# Altium schematic symbol library Driver.SchLib: 21 symbols
Pins are listed as number, name and electrical type; pins without a type are passive.

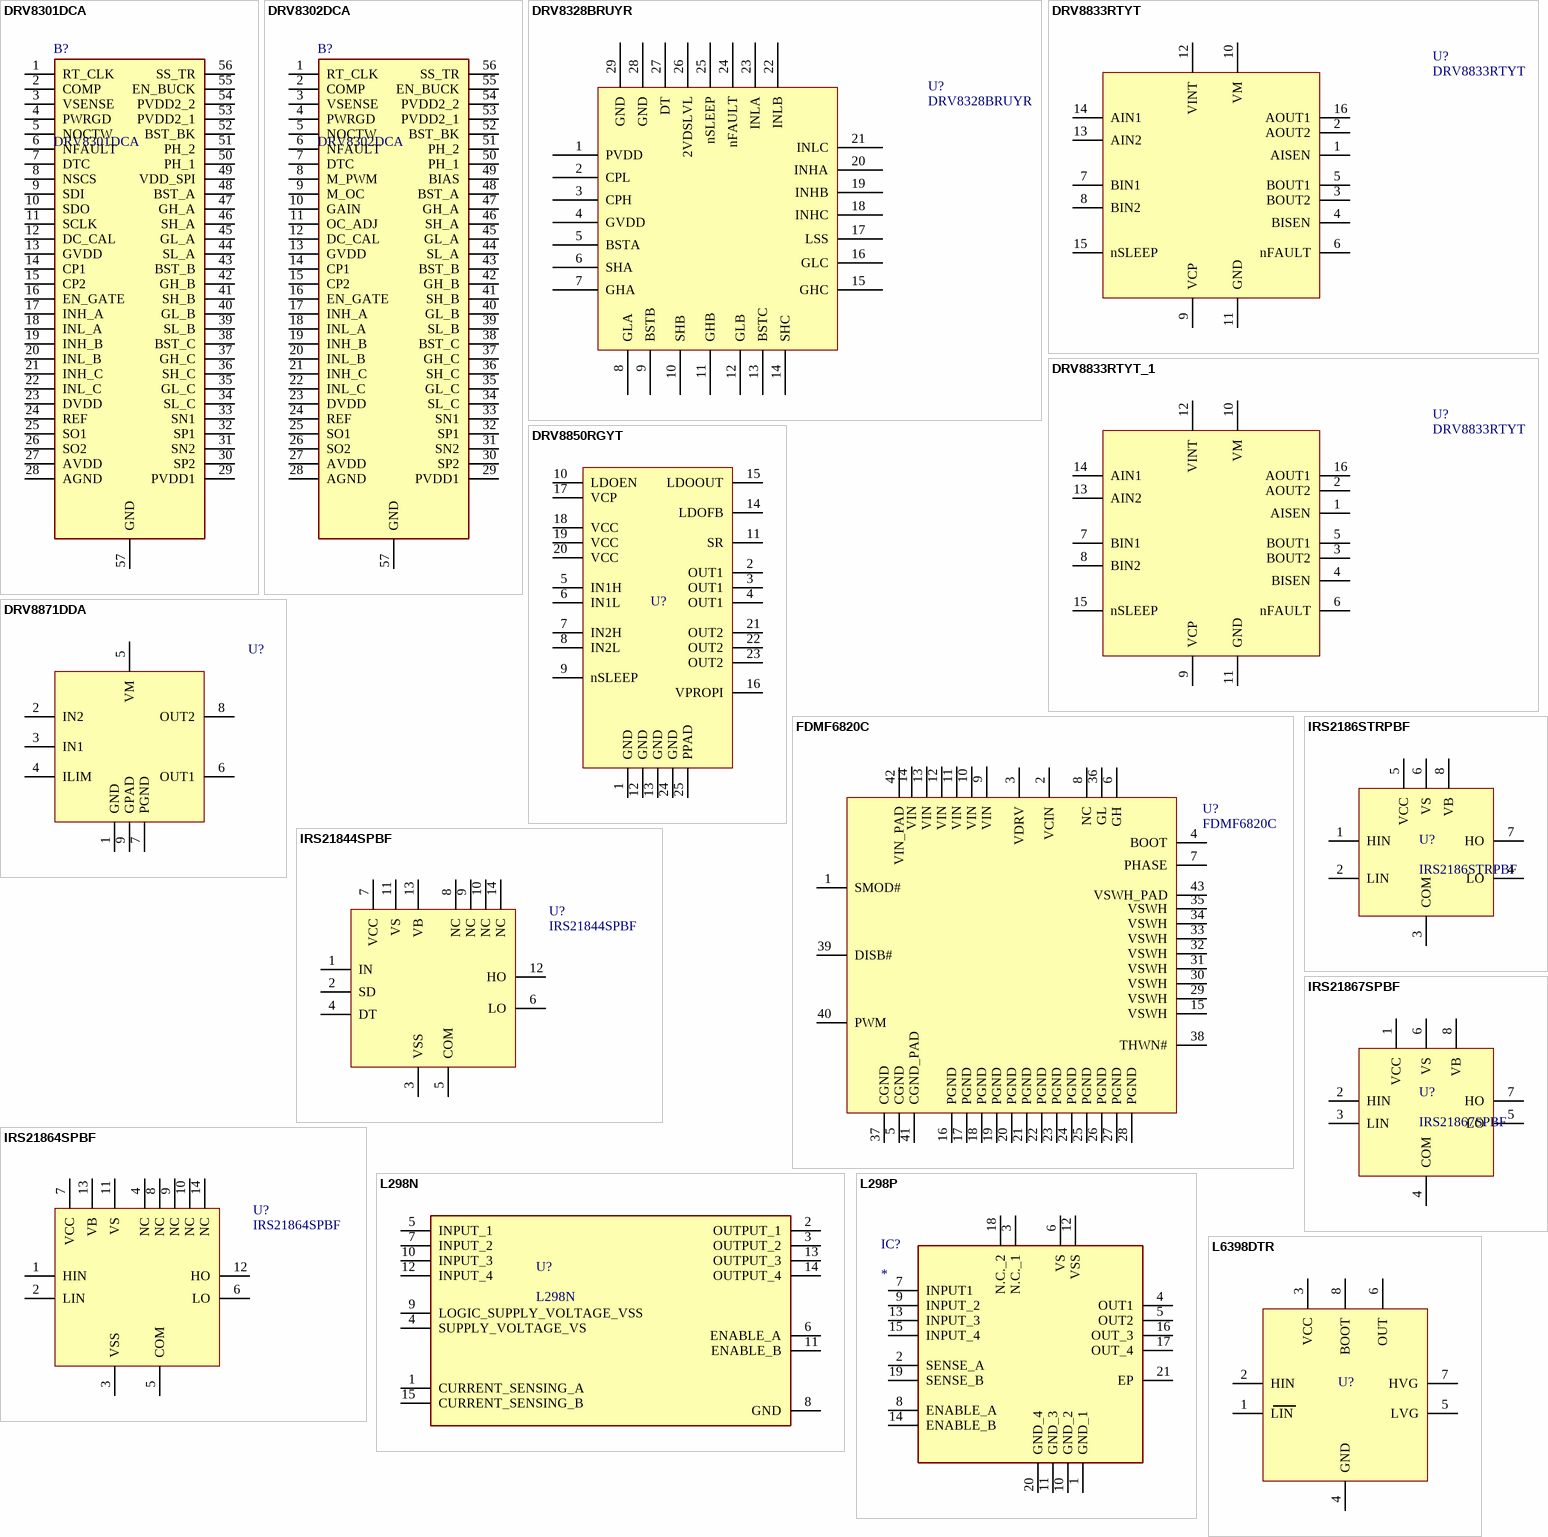
[diagram p0: symbols DRV8301DCA to L6398DTR]

## DRV8301DCA
designator B?
3-Phase Brushless Motor Pre-Driver with Dual Current Sense Amps and Buck Converter (PWM Ctrl w/ SPI); Manufacturer_Name: Texas Instruments; Geometry.Height: 1.2mm; Mouser Part Number: 595-DRV8301DCA; Mouser Price/Stock: https://www.mouser.co.uk/ProductDetail/Texas-Instruments/DRV8301DCA?qs=SMj%252Bbyv09TxbNFelDWMY6Q%3D%3D; Manufacturer_Part_Number: DRV8301DCA; Datasheet Link: http://www.ti.com/lit/ds/symlink/drv8301.pdf
footprint SOP50P810X120-57N
pins: 1 RT_CLK, 2 COMP, 3 VSENSE, 4 PWRGD, 5 NOCTW, 6 NFAULT, 7 DTC, 8 NSCS, 9 SDI, 10 SDO, 11 SCLK, 12 DC_CAL, 13 GVDD, 14 CP1, 15 CP2, 16 EN_GATE, 17 INH_A, 18 INL_A, 19 INH_B, 20 INL_B, 21 INH_C, 22 INL_C, 23 DVDD, 24 REF, 25 SO1, 26 SO2, 27 AVDD, 28 AGND, 29 PVDD1, 30 SP2, 31 SN2, 32 SP1, 33 SN1, 34 SL_C, 35 GL_C, 36 SH_C, 37 GH_C, 38 BST_C, 39 SL_B, 40 GL_B, 41 SH_B, 42 GH_B, 43 BST_B, 44 SL_A, 45 GL_A, 46 SH_A, 47 GH_A, 48 BST_A, 49 VDD_SPI, 50 PH_1, 51 PH_2, 52 BST_BK, 53 PVDD2_1, 54 PVDD2_2, 55 EN_BUCK, 56 SS_TR, 57 GND

## DRV8302DCA
designator B?
3-Phase Brushless Motor Pre-Driver DRV8302DCA, Motor Driver, 3-Phase Motor Driver, 200kHz 8 ??? 60 V, 56-Pin HTSSOP; Manufacturer_Name: Texas Instruments; Geometry.Height: 1.2mm; Mouser Part Number: 595-DRV8302DCA; Mouser Price/Stock: https://www.mouser.co.uk/ProductDetail/Texas-Instruments/DRV8302DCA?qs=UMk2QrKu%2FwwgoG3aN39ZGg%3D%3D; Manufacturer_Part_Number: DRV8302DCA; Datasheet Link: http://www.ti.com/lit/ds/symlink/drv8302.pdf
footprint SOP50P810X120-57N
pins: 1 RT_CLK, 2 COMP, 3 VSENSE, 4 PWRGD, 5 NOCTW, 6 NFAULT, 7 DTC, 8 M_PWM, 9 M_OC, 10 GAIN, 11 OC_ADJ, 12 DC_CAL, 13 GVDD, 14 CP1, 15 CP2, 16 EN_GATE, 17 INH_A, 18 INL_A, 19 INH_B, 20 INL_B, 21 INH_C, 22 INL_C, 23 DVDD, 24 REF, 25 SO1, 26 SO2, 27 AVDD, 28 AGND, 29 PVDD1, 30 SP2, 31 SN2, 32 SP1, 33 SN1, 34 SL_C, 35 GL_C, 36 SH_C, 37 GH_C, 38 BST_C, 39 SL_B, 40 GL_B, 41 SH_B, 42 GH_B, 43 BST_B, 44 SL_A, 45 GL_A, 46 SH_A, 47 GH_A, 48 BST_A, 49 BIAS, 50 PH_1, 51 PH_2, 52 BST_BK, 53 PVDD2_1, 54 PVDD2_2, 55 EN_BUCK, 56 SS_TR, 57 GND

## DRV8328BRUYR
designator U?
IC MTR DRV (4,5V ~ 60V) 1 - 2 A WQFN-28; Manufacturer: Texas Instruments; Operating Supply Current: 7uA ~ 35uA; Current - Peak Output (Source/Sink): 2 A; Current - Output: 1.5 A; Rise / Fall Time (Typ): 100ns / 100ns; Output Configuration: 3 Half Bridge (6); Logic Voltage - VIL, VIH: VIL =  0,8V / VIH =  2,2 V; Library Control - Person that did the Last Update Footprint: Firme; Logic (IN-SD/High Low): IN-SD; Rds On - Drain-Source Resistance: 4,5 Ohms; Category: Driver; Part Number: DRV8328BRUYR; Price: 1=2,7000, 10=2,44000, 100=1,9600 (USD); Technology: Power MOSFET; Package / Case: WQFN-28; Voltage - Load: -; Voltage - Supply: 4,5 V ~ 60 V; Operating Temperature: -40C ~ 150C; Library Ref: Driver; Library Control - Last Project that Used: -; Library Control - Last Update: 29/09/22; ComponentLink1Description: Mouser Link / ST Link; ComponentLink1URL: https://br.mouser.com/ProductDetail/Texas-Instruments/DRV8328BRUYR?qs=MyNHzdoqoQJCZ2BkmeuPjw%3D%3D; ComponentLink2Description: Datasheet; ComponentLink2URL: https://www.ti.com/lit/ds/symlink/drv8328.pdf?HQS=dis-mous-null-mousermode-dsf-pf-null-wwe&ts=1664488179988&ref_url=https%253A%252F%252Fbr.mouser.com%252F; Supplier 1: Mouser; Supplier Part Number 1: 595-DRV8328BRUYR
footprint WQFN-28 (PQFN, 28-Leads, Body 4,00x4,00mm, Pitch 0,40mm, Thermal Pad 2,60x2,60mm, IPC Medium Density)
pins: 1 PVDD, 2 CPL, 3 CPH, 4 GVDD, 5 BSTA, 6 SHA, 7 GHA, 8 GLA, 9 BSTB, 10 SHB, 11 GHB, 12 GLB, 13 BSTC, 14 SHC, 15 GHC, 16 GLC, 17 LSS, 18 INHC, 19 INHB, 20 INHA, 21 INLC, 22 INLB, 23 INLA, 24 nFAULT, 25 nSLEEP, 26 2VDSLVL, 27 DT, 28 GND, 29 GND

## DRV8833RTYT
designator U?
IC MTR DRV (2.7V ~ 10.8V) 1.5 A WQFN-16; Manufacturer: Texas Instruments; Operating Supply Current: 1.7 mA ~ 3 mA; Current - Peak Output (Source/Sink): 2 A; Current - Output: 1.5 A; Power Dissipation: 1.5W; Rise / Fall Time (Typ): 180 ns / 160 ns; Output Configuration: Half Bridge (4); Logic Voltage - VIL, VIH: VIL = 0.7 V (nSleep = 0.5 V) / VIH = 2 V (nSleep = 2.5V); Library Control - Checked Schematic: Yes; Library Control - Person that Checked Schematic: Raquel; Library Control - Person that did the Last Update Schematic: Stéfany(Ster); Logic (IN-SD/High Low): IN-SD; Rds On - Drain-Source Resistance: 360 mOhms; Category: Driver; Part Number: DRV8833RTYT; Price: 1=2,49000, 10=2,24000, 100=1,80000 (USD); Technology: Power MOSFET; Package / Case: WQFN-16; Voltage - Load: -; Voltage - Supply: 2.7 V ~ 10.8 V; Operating Temperature: -40C ~ 85C; Library Ref: Driver; Library Control - Checked Footprint: Yes; Library Control - Last Project that Used: -; Library Control - Last Update: 16/06/21; Library Control - Person that Checked Footprint: Raquel; Library Control - Person that did the Last Update Footprint: Stéfany(Ster); ComponentLink1Description: Mouser Link / ST Link; ComponentLink1URL: https://br.mouser.com/ProductDetail/Texas-Instruments/DRV8833RTYT?qs=%2Fha2pyFaduilsGqYdRS7ecvCbHxoHvHSD%2F%252BxLFdOXmyf0UBy6q3Jxg%3D%3D; ComponentLink2Description: Datasheet; ComponentLink2URL: https://www.ti.com/lit/ds/symlink/drv8833.pdf?HQS=dis-mous-null-mousermode-dsf-pf-null-wwe&ts=1622944200593&ref_url=https%253A%252F%252Fbr.mouser.com%252F; Supplier 1: Mouser; Supplier Part Number 1: 595-DRV8833RTYT
footprint WQFN-16 (16_Pins)
pins: 1 AISEN, 2 AOUT2, 3 BOUT2, 4 BISEN, 5 BOUT1, 6 nFAULT, 7 BIN1, 8 BIN2, 9 VCP, 10 VM, 11 GND, 12 VINT, 13 AIN2, 14 AIN1, 15 nSLEEP, 16 AOUT1

## DRV8833RTYT_1
designator U?, comment DRV8833RTYT
IC MTR DRV (2.7V ~ 10.8V) 1.5 A WQFN-16; Manufacturer: Texas Instruments; Operating Supply Current: 1.7 mA ~ 3 mA; Current - Peak Output (Source/Sink): 2 A; Current - Output: 1.5 A; Power Dissipation: 1.5W; Rise / Fall Time (Typ): 180 ns / 160 ns; Output Configuration: Half Bridge (4); Logic Voltage - VIL, VIH: VIL = 0.7 V (nSleep = 0.5 V) / VIH = 2 V (nSleep = 2.5V); Library Control - Checked Schematic: Yes; Library Control - Person that Checked Schematic: Raquel; Library Control - Person that did the Last Update Schematic: Stéfany(Ster); Logic (IN-SD/High Low): IN-SD; Rds On - Drain-Source Resistance: 360 mOhms; Category: Driver; Part Number: DRV8833RTYT; Price: 1=2,49000, 10=2,24000, 100=1,80000 (USD); Technology: Power MOSFET; Package / Case: WQFN-16; Voltage - Load: -; Voltage - Supply: 2.7 V ~ 10.8 V; Operating Temperature: -40C ~ 85C; Library Ref: Driver; Library Control - Checked Footprint: Yes; Library Control - Last Project that Used: -; Library Control - Last Update: 16/06/21; Library Control - Person that Checked Footprint: Raquel; Library Control - Person that did the Last Update Footprint: Stéfany(Ster); ComponentLink1Description: Mouser Link / ST Link; ComponentLink1URL: https://br.mouser.com/ProductDetail/Texas-Instruments/DRV8833RTYT?qs=%2Fha2pyFaduilsGqYdRS7ecvCbHxoHvHSD%2F%252BxLFdOXmyf0UBy6q3Jxg%3D%3D; ComponentLink2Description: Datasheet; ComponentLink2URL: https://www.ti.com/lit/ds/symlink/drv8833.pdf?HQS=dis-mous-null-mousermode-dsf-pf-null-wwe&ts=1622944200593&ref_url=https%253A%252F%252Fbr.mouser.com%252F; Supplier 1: Mouser; Supplier Part Number 1: 595-DRV8833RTYT
footprint WQFN-16 SEM PAD (WQFN-16 (16_Pins))
pins: 1 AISEN, 2 AOUT2, 3 BOUT2, 4 BISEN, 5 BOUT1, 6 nFAULT, 7 BIN1, 8 BIN2, 9 VCP, 10 VM, 11 GND, 12 VINT, 13 AIN2, 14 AIN1, 15 nSLEEP, 16 AOUT1

## DRV8850RGYT
designator U?  (value not drawn)
IC MTR DRV (2.5V - 13.5V) 1A VQFN-24; Manufacturer: Texas Instruments; Suplier Part Number 1: 595-DRV8850RGYT; Operating Supply Current: 1.2A; Current - Peak Output (Source, Sink): 3.2A / 3.2A; Voltage - Load: 2.5V ~ 13.5V; Voltage - Supply: 2.7V ~ 5.5V; Power Dissipation: 1.36W; Rise / Fall Time (Typ): 24ns / 41ns; Output Configuration: Half Bridge (4); Logic Voltage - VIL, VIH: VIL = (-0.2 V ~ VCCx0.3 V) / VIH = (VCCx0.7 V ~ VCC+0.2 V); Library Control - Checked Schematic: Yes; Library Control - Person that Checked Schematic: Stéfany (Ster); Logic (IN-SD/High Low): IN-SD; Category: Driver; Supplier 1: Mouser; Part Number: DRV8850RGYT; Price: 1=1,82, 10=1,64, 100=1,32 (USD); Package / Case: VQFN-24; Current - Output: 1A; Operating Temperature: -20°C ~ 85°C; Library Ref: Driver; Library Control - Checked Footprint: Yes; Library Control - Last Update: 12/06/2021 13:08; Library Control - Person that Checked Footprint: Stéfany (Ster); Library Control - Person that did the Last Update Schematic: Stéfany (Ster); Library Control - Person that did the Last Update Footprint: Stéfany (Ster); ComponentLink1Description: Mouser Link / ST Link; ComponentLink1URL: https://br.mouser.com/ProductDetail/Texas-Instruments/DRV8850RGYT?qs=wrT8kFYR778SGlQqu%252B55aw%3D%3D; ComponentLink2Description: Datasheet; ComponentLink2URL: https://www.ti.com/lit/ds/symlink/drv8850.pdf?HQS=dis-mous-null-mousermode-dsf-pf-null-wwe&ts=1629150528255&ref_url=https%253A%252F%252Fwww.mouser.com%252F
footprint QFN50P550X350X100-25N
pins: 1 GND, 2 OUT1, 3 OUT1, 4 OUT1, 5 IN1H, 6 IN1L, 7 IN2H, 8 IN2L, 9 nSLEEP, 10 LDOEN, 11 SR, 12 GND, 13 GND, 14 LDOFB, 15 LDOOUT, 16 VPROPI, 17 VCP, 18 VCC, 19 VCC, 20 VCC, 21 OUT2, 22 OUT2, 23 OUT2, 24 GND, 25 PPAD

## DRV8871DDA
designator U?  (value not drawn)
IC MTR DRV (6.5V ~ 45V) (3.5 A) SO-PowerPad-8; Manufacturer: Texas Instruments; Suplier Part Number 1: 595-DRV8871DDA; Operating Supply Current: 3mA; Current - Peak Output (Source, Sink): 3.6A / 3.6A; Current - Output: 3.5A; Power Dissipation: Irms^2 (HighSide Rds(On) + LowSide Rds(On)); Output Configuration: Half Bridge (2); Logic Voltage - VIL, VIH: VIL=0.5V / VIH=1.5V; Library Control - Checked Schematic: Yes; Library Control - Person that Checked Schematic: Stéfany (Ster); Library Control - Person that did the Last Update Footprint: Maria Laura; Logic (IN-SD/High Low): IN-SD; Rds On - Drain-Source Resistance: 565m ohm; Category: Driver; Supplier 1: Mouser; Part Number: DRV8871DDA; Price: 1=3,15000, 10=2,84000, 100=2,31000 (USD); Technology: Power MOSFET; Package / Case: SO-PowerPad-8; Voltage - Load: (6.5V ~ 45V); Voltage - Supply: (6.5V ~ 45V); Operating Temperature: -40°C ~ 125°C; Library Ref: Driver; Library Control - Checked Footprint: Yes; Library Control - Last Update: 12/06/2021 17:04; Library Control - Person that Checked Footprint: Stéfany (Ster); Library Control - Person that did the Last Update Schematic: Stéfany (Ster); ComponentLink1Description: Mouser Link / ST Link; ComponentLink1URL: https://br.mouser.com/ProductDetail/Texas-Instruments/DRV8871DDA?qs=Fobv33ltQGiluwfB07aSBw%3D%3D; ComponentLink2Description: Datasheet; ComponentLink2URL: https://www.ti.com/lit/ds/symlink/drv8871.pdf?HQS=dis-mous-null-mousermode-dsf-pf-null-wwe&ts=1623013148488&ref_url=https%253A%252F%252Fwww.google.com%252F
footprint SO-PowerPad-8(8_pins)
pins: 1 GND, 2 IN2, 3 IN1, 4 ILIM, 5 VM, 6 OUT1, 7 PGND, 8 OUT2, 9 GPAD

## FDMF6820C
designator U?
IC MTR DRV (4.5V ~ 5.5V) (50 A) PQFN-40; Manufacturer: ON Semiconductor / Fairchild; Operating Supply Current: 2 mA; Current - Peak Output (Source/Sink): 100 mA / 100 mA; Current - Output: 50 A; Power Dissipation: 45 kW; Rise / Fall Time (Typ) - Low Side: 20 ns / 10 ns; Output Configuration: Half Bridge (1); Logic Voltage - VIL, VIH: VIL = (0.62 V ~ 1.13 V) / VIH = (1.88 V ~ 2.61 V); Library Control - Checked Schematic: Yes; Library Control - Person that Checked Schematic: Raquel; Library Control - Person that did the Last Update Schematic: Stéfany(Ster); Logic (IN-SD/High Low): IN-SD; Rds On - Drain-Source Resistance: 30 Ohms; Rise / Fall Time (Typ) - High Side: 10ns / 10ns; Category: Driver; Part Number: FDMF6820C; Price: 1=3,79000, 10=3,41000, 100=2,80000 (USD); Technology: Power MOSFET; Package / Case: PQFN-40; Voltage - Load: -; Voltage - Supply: 4.5 V ~ 5.5 V; Operating Temperature: -40C ~ 125C; Library Ref: Driver; Library Control - Checked Footprint: Yes; Library Control - Last Project that Used: -; Library Control - Last Update: 16/06/21; Library Control - Person that Checked Footprint: Raquel; Library Control - Person that did the Last Update Footprint: Stéfany(Ster); Supplier 1: Mouser; Supplier Part Number 1: 512-FDMF6820C; ComponentLink1Description: Datasheet; ComponentLink1URL: https://br.mouser.com/datasheet/2/308/1/FDMF6820C_D-2312390.pdf; ComponentLink2Description: Mouser Link / ST Link; ComponentLink2URL: https://br.mouser.com/ProductDetail/ON-Semiconductor-Fairchild/FDMF6820C?qs=%2Fha2pyFaduiLXjLQHsgiuz3AQ4J8ZHdB9d7dgKmM5NL471Hl18UY6A%3D%3D
footprint PQFN-40 (40_PINS)
pins: 1 SMOD#, 2 VCIN, 3 VDRV, 4 BOOT, 5 CGND, 6 GH, 7 PHASE, 8 NC, 9 VIN, 10 VIN, 11 VIN, 12 VIN, 13 VIN, 14 VIN, 15 VSWH, 16 PGND, 17 PGND, 18 PGND, 19 PGND, 20 PGND, 21 PGND, 22 PGND, 23 PGND, 24 PGND, 25 PGND, 26 PGND, 27 PGND, 28 PGND, 29 VSWH, 30 VSWH, 31 VSWH, 32 VSWH, 33 VSWH, 34 VSWH, 35 VSWH, 36 GL, 37 CGND, 38 THWN#, 39 DISB#, 40 PWM, 41 CGND_PAD, 42 VIN_PAD, 43 VSWH_PAD

## IRS2186STRPBF
designator U?
IC MTR DRV (10V ~ 20V) (4 A) SOIC-8; Manufacturer: Infineon / IR; Suplier Part Number 1: 942-IRS2186STRPBF; Operating Supply Current: 240 uA; Current - Peak Output (Source/Sink): 4 A / 14A; Current - Output: 4 A; Power Dissipation: 625 mW; Rise / Fall Time (Typ): 38 ns / 30 ns; Output Configuration: Half Bridge (2); Logic Voltage - VIL, VIH: VIL = 0.8 V / VIH = 2.5 V; Library Control - Checked Schematic: Yes; Library Control - Person that Checked Schematic: Maria Laura; Library Control - Person that Checked Footprint: Stéfany(Ster); Logic (IN-SD/High Low): High Low; Category: Driver; Supplier 1: Mouser; Part Number: IRS2186STRPBF; Price: 1=1,73000, 10=1,56000, 100=1,25000 (USD); Technology: Power MOSFET; Package / Case: SOIC-8; Voltage - Supply: 10 V ~ 20 V; Operating Temperature: -40°C ~ 125°C; Library Ref: Driver; Library Control - Checked Footprint: Yes; Library Control - Last Update: 07/06/2021 10:38; Library Control - Person that did the Last Update Schematic: Stéfany(Ster); Library Control - Person that did the Last Update Footprint: Stéfany(Ster); ComponentLink1Description: Mouser Link / ST Link; ComponentLink1URL: https://br.mouser.com/ProductDetail/Infineon-IR/IRS2186STRPBF?qs=%2Fha2pyFadujIBJtUbZ4qF7ZE%252BC5tV5%2FfXdFcEsTpyD8obho2oT0lXQ%3D%3D; ComponentLink2Description: Datasheet; ComponentLink2URL: https://br.mouser.com/datasheet/2/196/Infineon_IRS2186_DataSheet_v01_00_EN-1228528.pdf
footprint SOIC-8 (8_PINS)
pins: 1 HIN, 2 LIN, 3 COM, 4 LO, 5 VCC, 6 VS, 7 HO, 8 VB

## IRS21844SPBF
designator U?
IC MTR DRV (10V ~ 20V) (1.9 A) 14-Lead SOIC; Manufacturer: Infineon / IR; Operating Supply Current: 1.6 mA; Current - Peak Output (Source/Sink): 1.4 A / 1.8A; Current - Output: 1.9 A; Power Dissipation: 1.0W; Rise / Fall Time (Typ): 60 ns / 35 ns; Output Configuration: Half Bridge (1); Logic Voltage - VIL, VIH: VSS-0.3 V ~ VCC+0.3 V; Library Control - Checked Schematic: Yes; Library Control - Person that Checked Schematic: Maria Laura; Library Control - Person that Checked Footprint: Stéfany(Ster); Logic (IN-SD/High Low): IN-SD; Category: Driver; Part Number: IRS21844SPBF; Price: 1=2,79000, 10=2,52000, 100=2,03000 (USD); Technology: Power MOSFET; Package / Case: 14-Lead SOIC; Voltage - Supply: 10 V ~ 20 V; Operating Temperature: -40°C ~ 125°C; Library Ref: Driver; Library Control - Checked Footprint: Yes; Library Control - Last Update: 07/06/2021 10:36; Library Control - Person that did the Last Update Schematic: Stéfany(Ster); Library Control - Person that did the Last Update Footprint: Stéfany(Ster); ComponentLink1Description: Mouser Link / ST Link; ComponentLink1URL: https://br.mouser.com/ProductDetail/Infineon-IR/IRS21844SPBF?qs=%2Fha2pyFadujIBJtUbZ4qF3K9G4G5Zppmeq9icBjBSImGlNW5TMXvuw%3D%3D; ComponentLink2Description: Datasheet; ComponentLink2URL: https://br.mouser.com/datasheet/2/196/Infineon_IRS2184_DataSheet_v01_00_EN-1732975.pdf; Supplier 1: Mouser; Supplier Part Number 1: 942-IRS21844SPBF
footprint SOIC-14 (14_Pins) (14-Lead SOIC (14_Pins))
pins: 1 IN, 2 SD, 3 VSS, 4 DT, 5 COM, 6 LO, 7 VCC, 8 NC, 9 NC, 10 NC, 11 VS, 12 HO, 13 VB, 14 NC

## IRS21864SPBF
designator U?
IC MTR DRV (10V ~ 20V) (4 A) SOIC-14; Manufacturer: Infineon / IR; Suplier Part Number 1: 942-IRS21864SPBF; Operating Supply Current: 240 uA; Current - Peak Output (Source/Sink): 4 A / 4 A; Current - Output: 4 A; Power Dissipation: 1.0W; Rise / Fall Time (Typ): 22 ns / 18 ns; Output Configuration: Half Bridge (2); Logic Voltage - VIL, VIH: VIL = 0.8 V / VIH = 2.5 V; Library Control - Checked Schematic: Yes; Library Control - Person that Checked Schematic: Raquel; Library Control - Person that did the Last Update Schematic: Stéfany(Ster); Logic (IN-SD/High Low): High Low; Category: Driver; Part Number: IRS21864SPBF; Price: 1=3,25000, 10=1,93000, 100=2,35000 (USD); Technology: Power MOSFET; Package / Case: SOIC-14; Voltage - Load: -; Voltage - Supply: 10 V ~ 20 V; Operating Temperature: -40C ~ 125C; Library Ref: Driver; Library Control - Checked Footprint: Yes; Library Control - Last Project that Used: -; Library Control - Last Update: 16/06/21; Library Control - Person that Checked Footprint: Raquel; Library Control - Person that did the Last Update Footprint: Stéfany(Ster); Rds On - Drain-Source Resistance: -; ComponentLink1Description: Mouser Link / ST Link; ComponentLink1URL: https://br.mouser.com/ProductDetail/Infineon-IR/IRS21864SPbF?qs=ellYJlE8XiEJoyjC5pBtuw%3D%3D; ComponentLink2Description: Datasheet; ComponentLink2URL: https://br.mouser.com/datasheet/2/196/Infineon_IRS2186_DataSheet_v01_00_EN-1228528.pdf; Supplier 1: Mouser; Supplier Part Number 1: 942-IRS21864STRPBF
footprint SOIC-14 (14_Pins) (14-Lead SOIC (14_Pins))
pins: 1 HIN, 2 LIN, 3 VSS, 4 NC, 5 COM, 6 LO, 7 VCC, 8 NC, 9 NC, 10 NC, 11 VS, 12 HO, 13 VB, 14 NC

## IRS21867SPBF
designator U?
IC MTR DRV (10V ~ 20V) (4A) SOIC-8; Manufacturer: Infineon / IR; Suplier Part Number 1: 942-IRS21867SPBF; Operating Supply Current: 240 uA; Current - Peak Output (Source, Sink): 4A / 4A; Voltage - Supply: 6.8V ~ 20V; Power Dissipation: 0.625 W; Rise / Fall Time (Typ): 38ns / 30ns; Output Configuration: Half-Bridge(2); Logic Voltage - VIL, VIH: VIL=0,8V / VIH=2.5V; Library Control - Checked Schematic: Yes; Library Control - Person that Checked Schematic: Stéfany (Ster); Library Control - Person that did the Last Update Footprint: Maria Laura; Logic (IN-SD/High Low): High Low; Category: Driver; Supplier 1: Mouser; Part Number: IRS21867SPBF; Price: 1=2,16000, 10=1,94000, 100=1,56000 (USD); Technology: Power MOSFET; Package / Case: SOIC-8; Current - Output: 4A; Voltage - Load: 10V ~ 20V; Operating Temperature: -40°C ~ 125°C; Library Ref: Driver; Library Control - Checked Footprint: Yes; Library Control - Last Update: 08/06/2021 11:03; Library Control - Person that Checked Footprint: Stéfany (Ster); Library Control - Person that did the Last Update Schematic: Stéfany (Ster); ComponentLink1Description: Mouser / ST Link; ComponentLink1URL: https://br.mouser.com/ProductDetail/Infineon-IR/IRS21867SPBF?qs=%2Fha2pyFadujIBJtUbZ4qF7hYp%252BwgQT8WJD5opknARleMmpA1%2F%252BdWbA%3D%3D; ComponentLink2Description: Datasheet; ComponentLink2URL: https://br.mouser.com/datasheet/2/196/infn_s_a0006155621_1-2271247.pdf
footprint SOIC-8 (8_PINS)
pins: 1 VCC, 2 HIN, 3 LIN, 4 COM, 5 LO, 6 VS, 7 HO, 8 VB

## L298N
designator U?
IC MTR DRV (10V ~ 20V) (4A) SOIC-8; Manufacturer: STMicroelectronics; Suplier Part Number 1: 511-L298; Operating Supply Current: 13 mA; Current - Peak Output (Source, Sink): 3A; Current - Output: 2A; Voltage - Load: 7V ~50V; Voltage - Supply: -0.3V ~7V; Power Dissipation: 25W; Rise / Fall Time (Typ): 0.7us/0.25us; Output Configuration: Half-Bridge(2); Logic Voltage - VIL, VIH: VIL=-0.3V / VIH=2.3V; Library Control - Checked Schematic: no; Library Control - Last Project that Used: Raijin-MK2; Logic (IN-SD/High Low): High Low; Category: Driver; Supplier 1: Mouser; Part Number: L298N; Price: 1=6,42, 10=5,8, 25=5,53 (USD); Technology: Power MOSFET; Package / Case: Tube; Operating Temperature: -25°C ~130°C; Library Ref: Driver; Library Control - Checked Footprint: no; Library Control - Last Update: 01/03/22 14:42; Library Control - Person that Checked Schematic: -; Library Control - Person that Checked Footprint: -; Library Control - Person that did the Last Update Schematic: -; Library Control - Person that did the Last Update Footprint: -; ComponentLink1Description: Mouser / ST Link; ComponentLink1URL: https://br.mouser.com/ProductDetail/STMicroelectronics/L298N?qs=sGAEpiMZZMtqBmg8fZQA6w19%252BjdLw82F; ComponentLink2Description: Datasheet; ComponentLink2URL: https://br.mouser.com/datasheet/2/389/cd00000240-1795236.pdf
footprint L298N
pins: 1 CURRENT_SENSING_A, 2 OUTPUT_1, 3 OUTPUT_2, 4 SUPPLY_VOLTAGE_VS, 5 INPUT_1, 6 ENABLE_A, 7 INPUT_2, 8 GND, 9 LOGIC_SUPPLY_VOLTAGE_VSS, 10 INPUT_3, 11 ENABLE_B, 12 INPUT_4, 13 OUTPUT_3, 14 OUTPUT_4, 15 CURRENT_SENSING_B

## L298P
designator IC?
IC MTR DRV (4.8V ~ 46V) (4A) PowerSO-20; Manufacturer: STMicroelectronics; Part Number: L298P; Suplier Part Number 1: 511-L298P; Suplier 1: Mouser; Operating Supply Current: 4.8 V to 46 V; Current - Peak Output (Source, Sink): 3 A; Power Dissipation: 25 W; Rise / Fall Time (Typ): 0.7 / 0.2 (us); Output Configuration: Dual Full-Bridge; Logic Voltage - VIL, VIH: VIL=-0.3V / VIH=2.3V; Logic (IN-SD/High Low): High Low; Category: Driver; Price: STMicroelectronics; Tecnology: L298P; Package / Case: PowerSO-20; Current - Output: 4 A; Voltage - Supply: 4.8 V ~ 46 V; Operating Temperature: -25 °C ~+130 °C; ComponentLink1Description: Mouser; ComponentLink1URL: https://br.mouser.com/ProductDetail/STMicroelectronics/L298P?qs=lDh9v96ogBZNJERYYNX11w%3D%3D; Library Ref: Driver; Library Control - Checked Schematic: *; Library Control - Checked Footprint: *; Library Control - Last Project that Used: *; Library Control - Last Update: *; Library Control - Person that Checked Schematic: *; Library Control - Person that Checked Footprint: *; Library Control - Person that did the Last Update Schematic: *; Library Control - Person that did the Last Update Footprint: *; ComponentLink2Description: Datasheet; ComponentLink2URL: https://br.mouser.com/datasheet/2/389/l298-1849437.pdf
footprint PowerSO-20
pins: 1 GND_1, 2 SENSE_A, 3 N.C._1, 4 OUT1, 5 OUT2, 6 VS, 7 INPUT1, 8 ENABLE_A, 9 INPUT_2, 10 GND_2, 11 GND_3, 12 VSS, 13 INPUT_3, 14 ENABLE_B, 15 INPUT_4, 16 OUT_3, 17 OUT_4, 18 N.C._2, 19 SENSE_B, 20 GND_4, 21 EP

## L6398DTR
designator U?  (value not drawn)
IC MTR DRV (-11V ~ 580V) (290mA) SO-8; Manufacturer: ST; Operating Supply Current: 90uA; Current - Peak Output (Source, Sink): 290mA / 430mA; Voltage - Supply: 10V ~ 20V; Power Dissipation: 800mW; Rise / Fall Time (Typ): 75ns / 35ns; Output Configuration: Half-Bridge(0); Logic Voltage - VIL, VIH: VIL=(0.8V ~ 1.1V) / VIH=(1.9V ~ 2.25V); Library Control - Checked Schematic: Yes; Library Control - Person that Checked Schematic: Pierre; Library Control - Person that did the Last Update Schematic: Stéfany(Ster); Library Control - Person that did the Last Update Footprint: Maria Laura; Logic (IN-SD/High Low): IN-SD; Rds On - Drain-Source Resistance: 120 ohms; Category: Driver; Supplier 1: ST; Part Number: L6398DTR; Suplier Part Number 1: L6398DTR; Price: 1=1,55000, 10=1,40000, 100=1,13000 (USD); Technology: Power MOSFET; Package / Case: SO-8; Current - Output: 290mA; Voltage - Load: -11V ~ 580V; Operating Temperature: -40°C ~ 125°C; Library Ref: Driver; Library Control - Checked Footprint: Yes; Library Control - Last Update: 21/06/2021 12:30; Library Control - Person that Checked Footprint: Pierre; ComponentLink1Description: Mouser / ST Link; ComponentLink1URL: https://estore.st.com/en/l6398dtr-cpn.html; ComponentLink2Description: Datasheet; ComponentLink2URL: https://www.st.com/resource/en/datasheet/l6398.pdf
footprint SO-8 (8_pins)
pins: 1 LIN, 2 HIN, 3 VCC, 4 GND, 5 LVG, 6 OUT, 7 HVG, 8 BOOT

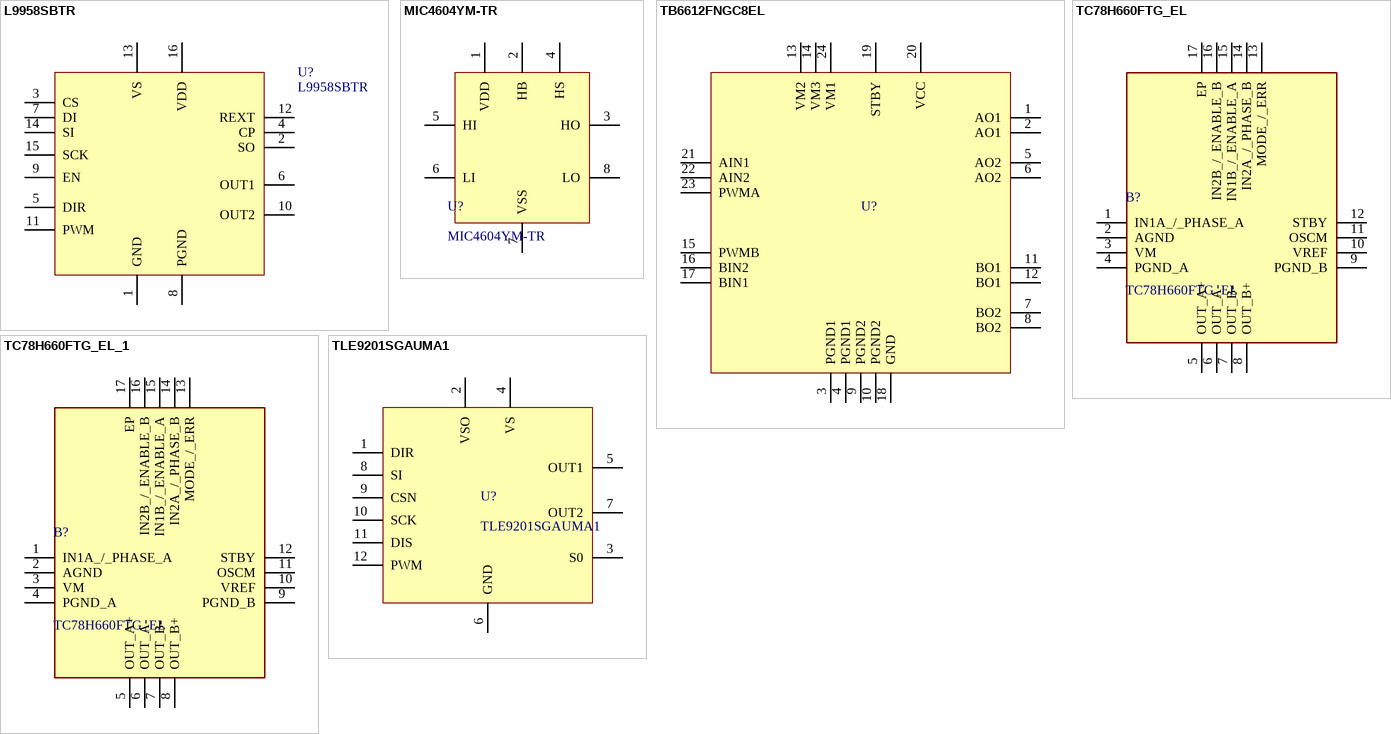
[diagram p1: symbols L9958SBTR to TLE9201SGAUMA1]

## L9958SBTR
designator U?
IC MTR DRV (4V ~ 28V) (100 uA) POWERSO 16; Manufacturer: ST; Operating Supply Current: 20 uA; Current - Peak Output (Source/Sink): 5 uA / 100 uA; Current - Output: 100 uA; Voltage - Load: 4V ~ 28V; Voltage - Supply: 4.5 V ~ 5.5 V; Power Dissipation: 625 mW; Rise / Fall Time (Typ): 0.2 us / 3 us; Output Configuration: Half Bridge (2); Logic Voltage - VIL, VIH: VIL = (-0.3 V ~ 0.8 V) / VIH = (2 V ~ VDD + 0.3 V); Library Control - Checked Schematic: Yes; Library Control - Person that Checked Schematic: Pierre; Library Control - Person that did the Last Update Footprint: Stéfany(Ster); Logic (IN-SD/High Low): IN-SD; Rds On - Drain-Source Resistance: 300 mOhms; Category: Driver; Part Number: L9958SBTR; Suplier Part Number 2: L9958SBTR; Price: 1=5,51000, 10=4,95000, 100=4,06000 (USD); Technology: Power MOSFET; Package / Case: POWERSO 16; Operating Temperature: -40°C ~ 150°C; Library Ref: Driver; Library Control - Checked Footprint: Yes; Library Control - Last Update: 21/06/2021 12:25; Library Control - Person that Checked Footprint: Pierre; Library Control - Person that did the Last Update Schematic: Pierre; ComponentLink1Description: Mouser Link / ST Link; ComponentLink1URL: https://estore.st.com/en/l9958sbtr-cpn.html; ComponentLink2Description: Datasheet; ComponentLink2URL: https://www.st.com/resource/en/datasheet/l9958.pdf; Supplier 1: Mouser; Supplier Part Number 1: 511-L9958SBTR
footprint POWERSO16 (16_PINS)
pins: 1 GND, 2 SO, 3 CS, 4 CP, 5 DIR, 6 OUT1, 7 DI, 8 PGND, 9 EN, 10 OUT2, 11 PWM, 12 REXT, 13 VS, 14 SI, 15 SCK, 16 VDD

## MIC4604YM-TR
designator U?
IC MTR DRV (5.5V - 16V) 1.5A SOIC-8; Manufacturer: Microchip Technology; Suplier Part Number 1: 998-MIC4604YM-TR; Operating Supply Current: 500 uA; Current - Peak Output (Source, Sink): 1A, 1A; Voltage - Supply: 5.5 ~ 16V; Power Dissipation: 99 °C/W; Rise / Fall Time (Typ): 20ns/ 20ns; Output Configuration: Half-Bridge; Logic Voltage - VIL, VIH: 0,8V, 2.2V; Library Control - Checked Schematic: Yes; Library Control - Person that Checked Schematic: Pierre; Category: Driver; Supplier 1: Mouser; Part Number: MIC4604YM-TR; Price: -; Technology: Power Mosfet; Package / Case: SOIC-8; Current - Output: 1.5A; Voltage - Load: -; Operating Temperature: -40 ~ 125°C; Library Ref: Driver; Library Control - Checked Footprint: *; Library Control - Last Project that Used: *; Library Control - Last Update: 10/04/22 - 15:00; Library Control - Person that Checked Footprint: *; Library Control - Person that did the Last Update Schematic: *; Library Control - Person that did the Last Update Footprint: *; Logic (IN-SD/High Low): *; Rds On - Drain-Source Resistance: *; ComponentLink1Description: Mouser Link / ST Link; ComponentLink1URL: https://www.mouser.com/ProductDetail/Microchip-Technology/MIC4604YM-TR?qs=U6T8BxXiZAXPh9RJlee8UQ%3D%3D; ComponentLink2Description: Datasheet; ComponentLink2URL: https://www.mouser.com/datasheet/2/268/20005852A-1890901.pdf
footprint SOIC-8 (8_PINS)
pins: 1 VDD, 2 HB, 3 HO, 4 HS, 5 HI, 6 LI, 7 VSS, 8 LO

## TB6612FNGC8EL
designator U?  (value not drawn)
IC MTR DRV (2.5V ~ 13.5V) (1A)  SSOP-24; Manufacturer: Toshiba; Suplier Part Number 1: 757-TB6612FNGC8EL; Operating Supply Current: 1.2A; Current - Peak Output (Source, Sink): 3.2A / 3.2A; Voltage - Supply: 2.7V ~ 5.5V; Power Dissipation: 1.36W; Rise / Fall Time (Typ): 24ns / 41ns; Output Configuration: Half Bridge (4); Logic Voltage - VIL, VIH: VIL = (-0.2 V ~ VCCx0.3 V) / VIH = (VCCx0.7 V ~ VCC+0.2 V); Library Control - Checked Schematic: Yes; Library Control - Person that Checked Schematic: Stéfany (Ster); Logic (IN-SD/High Low): IN-SD; Category: Driver; Supplier 1: Mouser; Part Number: TB6612FNGC8EL; Price: 1=2,04000, 10=1,73000, 100=1,35000 (USD); Technology: Power MOSFET; Package / Case: SSOP-24; Current - Output: 1A; Voltage - Load: 2.5V ~ 13.5V; Operating Temperature: -20°C ~ 85°C; Library Ref: Driver; Library Control - Checked Footprint: Yes; Library Control - Last Update: 12/06/2021 13:08; Library Control - Person that Checked Footprint: Stéfany (Ster); Library Control - Person that did the Last Update Schematic: Stéfany (Ster); Library Control - Person that did the Last Update Footprint: Stéfany (Ster); ComponentLink1Description: Mouser Link / ST Link; ComponentLink1URL: https://br.mouser.com/ProductDetail/Toshiba/TB6612FNGC8EL?qs=%2Fha2pyFaduieefomnoxxebedNwY2WKSkzrp98JlLlMnHs8uJoj3o8Gf3S6kFGc6f; ComponentLink2Description: Datasheet; ComponentLink2URL: https://br.mouser.com/datasheet/2/408/TB6612FNG_datasheet_en_20141001-708260.pdf
footprint SSOP-24 (24_pins)
pins: 1 AO1, 2 AO1, 3 PGND1, 4 PGND1, 5 AO2, 6 AO2, 7 BO2, 8 BO2, 9 PGND2, 10 PGND2, 11 BO1, 12 BO1, 13 VM2, 14 VM3, 15 PWMB, 16 BIN2, 17 BIN1, 18 GND, 19 STBY, 20 VCC, 21 AIN1, 22 AIN2, 23 PWMA, 24 VM1

## TC78H660FTG_EL
designator B?
Motor / Motion / Ignition Controllers & Drivers Dual H Brdge Drvr IC; Manufacturer_Name: Toshiba; Manufacturer_Part_Number: TC78H660FTG,EL; Geometry.Height: 0.9mm; Mouser Part Number: 757-TC78H660FTGEL; Mouser Price/Stock: https://www.mouser.co.uk/ProductDetail/Toshiba/TC78H660FTGEL?qs=GBLSl2Akirut0oT06igwhw%3D%3D; Datasheet Link: https://toshiba.semicon-storage.com/eu/semiconductor/product/motor-driver-ics/brushed-dc-motor-driver-ics/detail.TC78H660FTG.html
footprint QFN50P300X300X90-17N
pins: 1 IN1A_/_PHASE_A, 2 AGND, 3 VM, 4 PGND_A, 5 OUT_A+, 6 OUT_A-, 7 OUT_B-, 8 OUT_B+, 9 PGND_B, 10 VREF, 11 OSCM, 12 STBY, 13 MODE_/_ERR, 14 IN2A_/_PHASE_B, 15 IN1B_/_ENABLE_A, 16 IN2B_/_ENABLE_B, 17 EP

## TC78H660FTG_EL_1
designator B?, comment TC78H660FTG_EL
Motor / Motion / Ignition Controllers & Drivers Dual H Brdge Drvr IC; Manufacturer_Name: Toshiba; Manufacturer_Part_Number: TC78H660FTG,EL; Geometry.Height: 0.9mm; Mouser Part Number: 757-TC78H660FTGEL; Mouser Price/Stock: https://www.mouser.co.uk/ProductDetail/Toshiba/TC78H660FTGEL?qs=GBLSl2Akirut0oT06igwhw%3D%3D; Datasheet Link: https://toshiba.semicon-storage.com/eu/semiconductor/product/motor-driver-ics/brushed-dc-motor-driver-ics/detail.TC78H660FTG.html
footprint QFN50P300X300X90-17N
pins: 1 IN1A_/_PHASE_A, 2 AGND, 3 VM, 4 PGND_A, 5 OUT_A+, 6 OUT_A-, 7 OUT_B-, 8 OUT_B+, 9 PGND_B, 10 VREF, 11 OSCM, 12 STBY, 13 MODE_/_ERR, 14 IN2A_/_PHASE_B, 15 IN1B_/_ENABLE_A, 16 IN2B_/_ENABLE_B, 17 EP

## TLE9201SGAUMA1
designator U?
IC MTR DRV (5V ~ 28V) (6A) PG-DSO-12-17; Manufacturer: Infineon Technologies; Suplier Part Number 1: 726-TLE9201SGAUMA1; Operating Supply Current: 5mA; Current - Peak Output (Source, Sink): 13mA / 13mA; Voltage - Load: 5V ~ 28V; Rise / Fall Time (Typ): 40us / 40us; Output Configuration: Half Bridge (2); Logic Voltage - VIL, VIH: VIL=-0.3V ~ 5.5V / VIH=-0.3V ~ 5.5V; Library Control - Checked Schematic: Yes; Library Control - Person that Checked Schematic: Stéfany (Ster); Logic (IN-SD/High Low): IN-SD; Rds On - Drain-Source Resistance: 100 mohms; Category: Driver; Supplier 1: Mouser; Part Number: TLE9201SGAUMA1; Price: 1=4,05000, 10=3,64000, 100=2,98000 (USD); Technology: Power MOSFET; Package / Case: PG-DSO-12-17; Current - Output: 6A; Voltage - Supply: 5V ~ 28V; Operating Temperature: -40°C ~ 150°C; Library Ref: Driver; Library Control - Checked Footprint: Yes; Library Control - Last Update: 12/06/2021 16:33; Library Control - Person that Checked Footprint: Stéfany (Ster); Library Control - Person that did the Last Update Schematic: Stéfany (Ster); Library Control - Person that did the Last Update Footprint: Stéfany (Ster); ComponentLink1Description: Mouser Link / ST Link; ComponentLink1URL: https://br.mouser.com/ProductDetail/Infineon-Technologies/TLE9201SGAUMA1?qs=%2Fha2pyFaduh3zZoOZfQgwcN6jr3dLFOmd0g5VptgbbvytfgSYGGiDpT3xNS3Er5r; ComponentLink2Description: Datasheet; ComponentLink2URL: https://br.mouser.com/datasheet/2/196/Infineon-TLE9201SG-DS-v01_00-en-1732274.pdf
footprint PG-DSO-12-17 (12_pins)
pins: 1 DIR, 2 VSO, 3 S0, 4 VS, 5 OUT1, 6 GND, 7 OUT2, 8 SI, 9 CSN, 10 SCK, 11 DIS, 12 PWM